# Altium schematic symbol library TLV4082Q.SchLib: 1 symbol
Pins are listed as number, name and electrical type; pins without a type are passive.

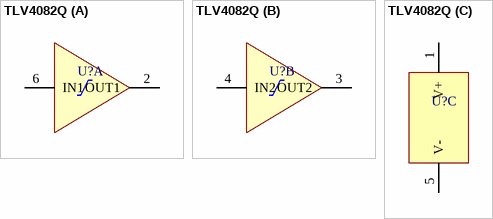
[diagram p0: symbol TLV4082Q]

## TLV4082Q
designator U?
part A pins: 2 OUT1, 6 IN1
part B pins: 3 OUT2, 4 IN2
part C pins: 1 V+, 5 V-